# Altium footprint library MCU.PcbLib: 21 footprints (part 1 of 2)
Each footprint in its own frame and in the unit in brackets; x right, y up, seen from the top. Pads: shape width x height; smd on the part's side, far side on the other; paste and mask are expansions set on the pad; w line width, h text height; cw(c..) or ccw(c..) is an arc to the next point about the centre after c.
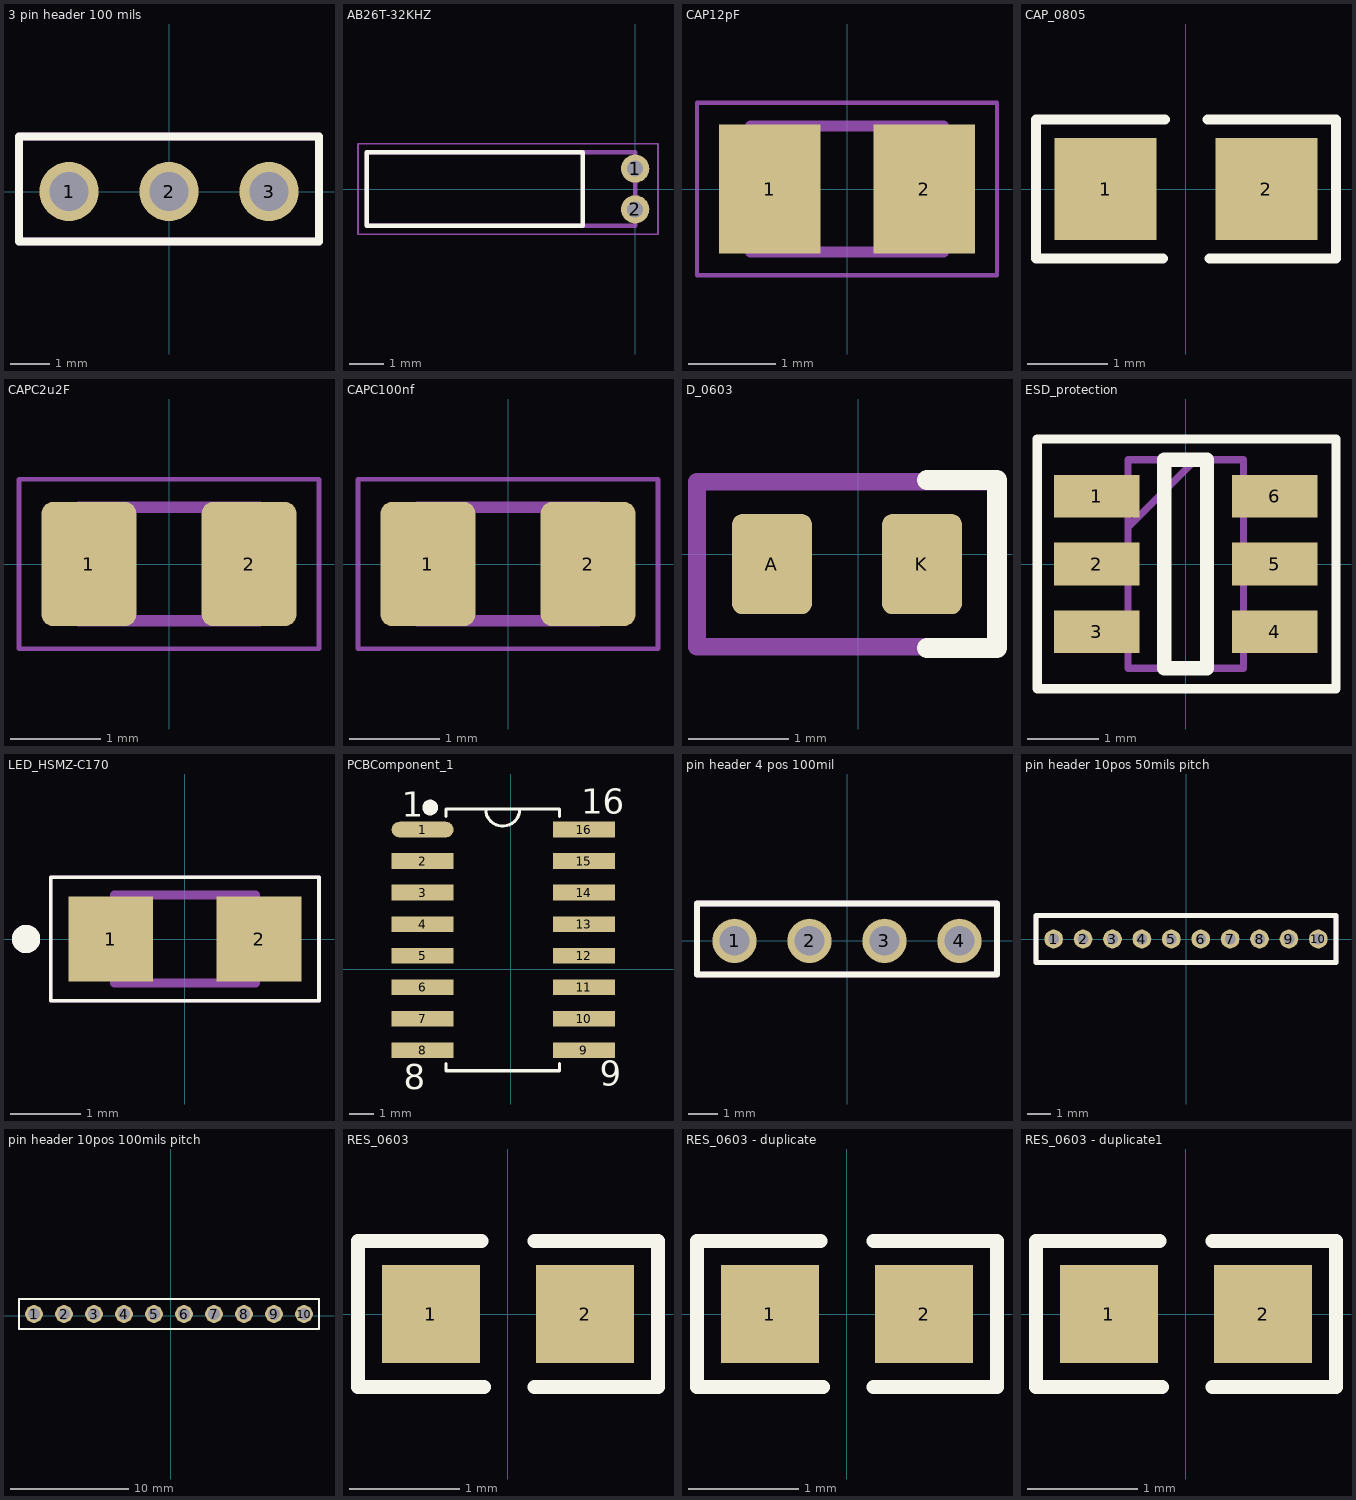
[diagram p0: the footprints below, top view; thin cyan lines are the x and y axes]

## 3 pin header 100 mils [mm]
pads (3):
  round 1.5 hole 1 mask+0.3: 1(-2.54,0) 2(0,0) 3(2.54,0)
Top Overlay:
  lines w0.2: -3.81,-1.27 3.81,-1.27 3.81,1.397 -3.81,1.397 -3.81,-1.27
Mechanical 13:
  lines w0.2: -3.81,-1.27 -3.81,1.397 3.81,1.397 3.81,-1.27 -3.81,-1.27
3D body "M20-9990346--3DModel-STEP-56544.STEP": height 8.74, standoff -3, extent -3.81,-1.27 3.81,1.27

## AB26T-32KHZ [mm]
height 2.1
pads (2):
  round 0.81 hole 0.46 mask+0.102: 1(0,0.585) 2(0,-0.585)
Top Overlay:
  lines w0.127: -7.7,-1.05 -7.7,1.05 -1.5,1.05 -1.5,-1.05 -7.7,-1.05
Mechanical 13:
  lines w0.127: -7.7,-1.05 -7.7,1.05 0,1.05 0,-1.05 -7.7,-1.05
Mechanical 15:
  lines w0.05: -7.95,-1.3 -7.95,1.3 0.655,1.3 0.655,-1.3 -7.95,-1.3
3D body "step_temp.STEP": height 2.1, standoff -3.78, extent -7.7,-1.05 0.129,1.05

## CAP12pF [mm]
pads (2):
  rect 1.16x1.47 smd: 1(-0.88,0) 2(0.88,0)
Mechanical 13:
  lines w0.127: -1.1,-0.72 -1.1,0.72 1.1,0.72 1.1,-0.72 -1.1,-0.72
Mechanical 15:
  lines w0.05: -1.713,-0.983 -1.713,0.983 1.713,0.983 1.713,-0.983 -1.713,-0.983
3D body "step_temp.STEP": height 0.94, standoff 0, extent -1.005,-0.625 1.005,0.625

## CAP_0805 [mm] "Ceramic Capacitor"
height 0.7
pads (2):
  rect 1.27x1.27 smd mask+0.076: 1(-1,0) 2(1,0)
Top Overlay:
  lines w0.127: -0.289,-0.864 -1.864,-0.864 -1.864,0.864 -0.263,0.864 ; 0.27,0.864 1.845,0.864 ; 0.295,-0.864 1.845,-0.864 ; 1.864,-0.864 1.864,0.864
3D body "0805 SMD Capacitor.STEP": height 0.78, standoff 0, extent -1,-0.625 1,0.625

## CAPC2u2F [mm]
pads (2):
  rrect25% 1.05x1.38 smd paste+0 mask+0.102: 1(-0.888,0) 2(0.888,0)
Mechanical 13:
  lines w0.127: -1,-0.63 -1,0.63 1,0.63 1,-0.63 -1,-0.63
Mechanical 15:
  lines w0.05: -1.663,-0.94 -1.663,0.94 1.663,0.94 1.663,-0.94 -1.663,-0.94
3D body "step_temp.STEP": height 1.35, standoff 0, extent -1,-0.625 1,0.625

## CAPC100nf [mm]
pads (2):
  rrect25% 1.05x1.38 smd: 1(-0.888,0) 2(0.888,0)
Mechanical 13:
  lines w0.127: -1,-0.63 -1,0.63 1,0.63 1,-0.63 -1,-0.63
Mechanical 15:
  lines w0.05: -1.663,-0.94 -1.663,0.94 1.663,0.94 1.663,-0.94 -1.663,-0.94
3D body "step_temp.STEP": height 0.95, standoff 0, extent -1,-0.625 1,0.625

## D_0603 [mm]
pads (2):
  rrect25% 0.8x1 smd: A(-0.863,-0.1) K(0.637,-0.1)
Top Overlay:
  lines w0.2: 0.687,-0.941 1.387,-0.941 1.387,-0.1 1.387,0.743 0.687,0.743
Mechanical 13:
  lines w0.175: -1.613,-0.925 -1.613,0.725 1.387,0.725 1.387,-0.925 -1.613,-0.925
  text "'.Designator'" at -5.665,-0.417 h1
3D body "D_TVS_0603.stp": height 0.81, standoff 0.01, extent -0.913,-0.55 0.687,0.35

## ESD_protection [mm]
pads (6):
  rect 1.2x0.6 smd: 1(-1.25,0.95) 2(-1.25,0) 3(-1.25,-0.95) 4(1.25,-0.95) 5(1.25,0) 6(1.25,0.95)
Top Overlay:
  lines w0.127: -2.083,-1.75 2.108,-1.75 2.108,1.751 -2.083,1.751 -2.083,-1.75
  lines w0.2: -0.3,-1.462 -0.3,1.462 0.3,1.462 0.3,-1.462 -0.3,-1.462
Mechanical 13:
  lines w0.05: -2.1,-1.775 -2.1,1.775 2.1,1.775 2.1,-1.775 -2.1,-1.775
  lines w0.1: -0.812,0.512 0.138,1.462 ; -0.812,-1.462 -0.812,1.462 0.812,1.462 0.812,-1.462 -0.812,-1.462
3D body "step_temp.STEP": height 1.42, standoff -0.03, extent -1.4,-1.462 1.4,1.462

## LED_HSMZ-C170 [mm]
height 0.8
pads (2):
  rect 1.2x1.2 smd: 1(-1.05,0) 2(1.05,0)
Top Overlay:
  circle w0.2: c-2.25,0 r0.1
  lines w0.05: -1.9,-0.875 1.9,-0.875 1.9,0.875 -1.9,0.875 -1.9,-0.875
Mechanical 13:
  circle w0.2: c-2.25,0 r0.1
  lines w0.127: -1,-0.625 -1,0.625 1,0.625 1,-0.625 -1,-0.625
Mechanical 15:
  lines w0.05: -1.9,-0.875 -1.9,0.875 1.9,0.875 1.9,-0.875 -1.9,-0.875
3D body "step_temp.STEP": height 0.8, standoff 0, extent -1,-0.625 1,0.625

## PCBComponent_1 [mm]
pads (16):
  oval 2.5x0.635 smd mask+0.076: 1(-3.55,5.62)
  rect 2.5x0.635 smd mask+0.076: 2(-3.55,4.35) 3(-3.55,3.08) 4(-3.55,1.81) 5(-3.55,0.54) 6(-3.55,-0.73) 7(-3.55,-2) 8(-3.55,-3.27) 9(2.95,-3.27) 10(2.95,-2) 11(2.95,-0.73) 12(2.95,0.54) 13(2.95,1.81) 14(2.95,3.08) 15(2.95,4.35) 16(2.95,5.62)
Top Overlay:
  circle w0.381: c-3.246,6.509 r0.127
  lines w0.127: -2.611,-3.803 -2.611,-4.095 1.961,-4.095 1.961,-3.803 ; -2.611,6.153 -2.611,6.446 1.961,6.446 1.961,6.153 ; -1.012,6.446 ccw(c-0.325,6.446) 0.362,6.446
  text "16" at 2.85,6.255 h1
  text "9" at 3.578,-4.709 h1
  text "8" at -4.316,-4.832 h1
  text "1" at -4.389,6.128 h1
3D body "SOIC-16-1.step": height 1.4, standoff 0, extent -3.325,-3.775 2.675,6.125

## pin header 4 pos 100mil [mm]
pads (4):
  round 1.5 hole 1 mask+0.3: 1(-3.81,0) 2(-1.27,0) 3(1.27,0) 4(3.81,0)
Top Overlay:
  lines w0.2: -5.08,-1.143 -5.08,1.27 5.08,1.27 5.08,-1.143 -5.08,-1.143
Mechanical 13:
  lines w0.2: -5.08,-1.143 5.08,-1.143 5.08,1.27 -5.08,1.27 -5.08,-1.143
3D body "m20-9730446.stp": height 10, standoff -2.6, extent -5.08,-1.27 5.08,1.27

## pin header 10pos 50mils pitch [mm]
pads (10):
  round 0.81 hole 0.46 mask+0.102: 1(-5.715,0) 2(-4.445,0) 3(-3.175,0) 4(-1.905,0) 5(-0.635,0) 6(0.635,0) 7(1.905,0) 8(3.175,0) 9(4.445,0) 10(5.715,0)
Top Overlay:
  lines w0.2: -6.477,-1.016 -6.477,-0.508 -6.477,0.508 -6.477,1.016 6.477,1.016 6.477,0.508 6.477,-0.508 6.477,-1.016 -6.477,-1.016
Mechanical 13:
  lines w0.2: -6.477,-1.016 -6.477,1.016 6.477,1.016 6.477,-1.016 -6.477,-1.016

## pin header 10pos 100mils pitch [mm]
pads (10):
  round 1.5 hole 1 mask+0.3: 1(-11.557,0.127) 2(-9.017,0.127) 3(-6.477,0.127) 4(-3.937,0.127) 5(-1.397,0.127) 6(1.143,0.127) 7(3.683,0.127) 8(6.223,0.127) 9(8.763,0.127) 10(11.303,0.127)
Top Overlay:
  lines w0.2: -12.827,-1.143 -12.827,1.397 12.573,1.397 12.573,-1.143 -12.827,-1.143
Mechanical 13:
  lines w0.2: -12.827,-1.143 12.573,-1.143 12.573,1.397 -12.827,1.397 -12.827,-1.143
3D body "TSW-110-06-S-S.stp": height 5.21, standoff -2.41, extent -12.954,-1.143 12.573,1.397

## RES_0603 [mil] "CASE: 0603"
height 19.68
pads (2):
  rect 35x35 smd mask+3: 1(-27.5,0) 2(27.5,0)
Top Overlay:
  lines w5: -9.5,26 -53.5,26 -53.5,-26 -8.5,-26 ; 9.5,-26 53.5,-26 53.5,26 9.5,26
3D body "User Library-RES_0603-1.STEP": height 18, standoff -0.11, extent -31.5,-15.86 31.5,15.64

## RES_0603 - duplicate [mil] "CASE: 0603"
height 19.68
pads (2):
  rect 35x35 smd mask+3: 1(-27.5,0) 2(27.5,0)
Top Overlay:
  lines w5: -9.5,26 -53.5,26 -53.5,-26 -8.5,-26 ; 9.5,-26 53.5,-26 53.5,26 9.5,26
3D body "User Library-RES_0603-1.STEP": height 18, standoff -0.11, extent -31.5,-15.86 31.5,15.64

## RES_0603 - duplicate1 [mil] "CASE: 0603"
height 19.68
pads (2):
  rect 35x35 smd mask+3: 1(-27.5,0) 2(27.5,0)
Top Overlay:
  lines w5: -9.5,26 -53.5,26 -53.5,-26 -8.5,-26 ; 9.5,-26 53.5,-26 53.5,26 9.5,26
3D body "User Library-RES_0603-1.STEP": height 18, standoff -0.11, extent -31.5,-15.86 31.5,15.64